# Altium schematic symbol library CL31B334KBFNNNE.SchLib: 1 symbol
Pins are listed as number, name and electrical type; pins without a type are passive.

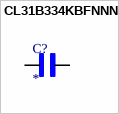
[diagram p0: symbol CL31B334KBFNNNE]

## CL31B334KBFNNNE
designator C?
0.33 ÂµF Â±10% 50V Ceramic Capacitor X7R 1206 (3216 Metric); MF: Samsung; MP: CL31B334KBFNNNE; SnapEDA_Link: https://www.snapeda.com/parts/CL31B334KBFNNNE/Samsung/view-part/?ref=snap; Package: SMD-2 Samsung; Value: *; Check_prices: https://www.snapeda.com/parts/CL31B334KBFNNNE/Samsung/view-part/?ref=eda
footprint CAPC3216X140N
pins: 1, 2